# Altium footprint library PCB_ConnectorHDR.PcbLib: 26 footprints (part 1 of 2)
Each footprint in its own frame and in the unit in brackets; x right, y up, seen from the top. Pads: shape width x height; smd on the part's side, far side on the other; paste and mask are expansions set on the pad; w line width, h text height; cw(c..) or ccw(c..) is an arc to the next point about the centre after c.
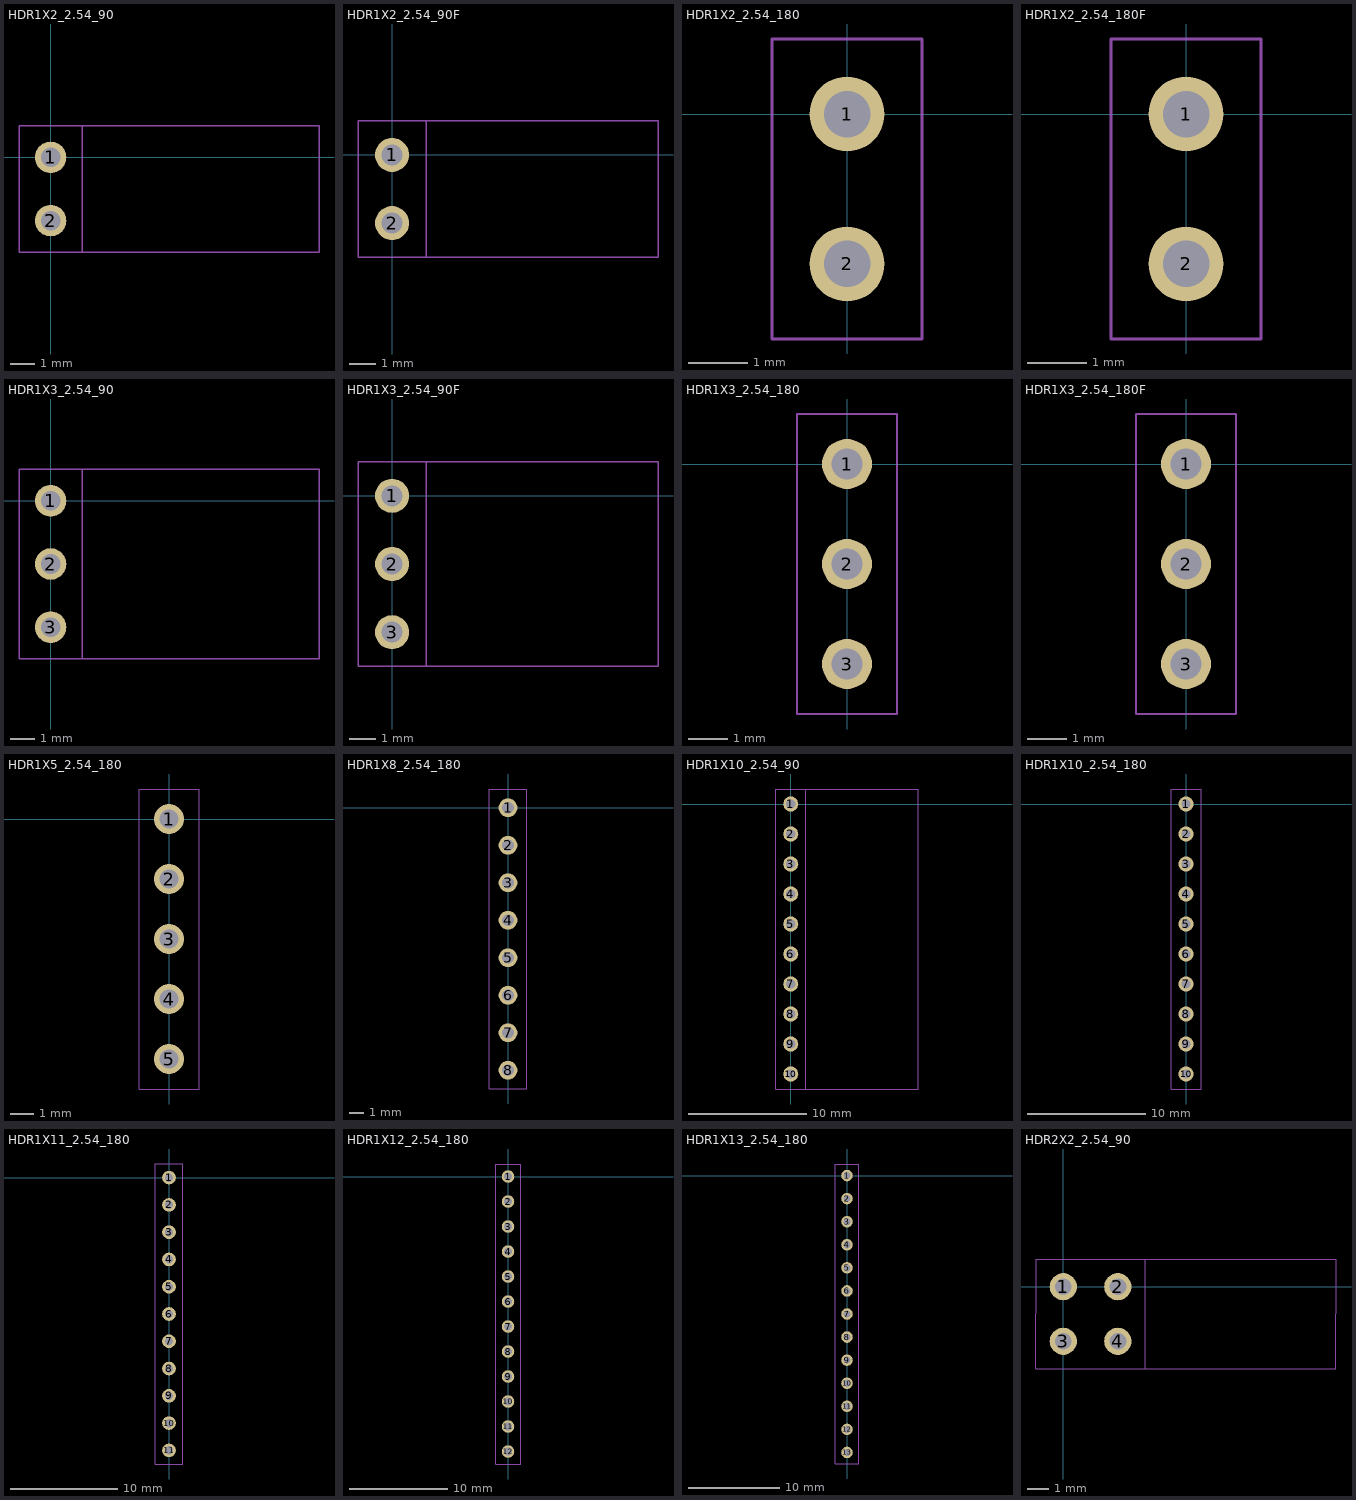
[diagram p0: the footprints below, top view; thin cyan lines are the x and y axes]

## HDR1X2_2.54_90 [mil]
height 169.29
pads (2):
  round 50 hole 31: 1(0,0) 2(0,-100)
Mechanical 15:
  lines w1: -10,0 10,0 ; 0,-10 0,10
  lines w2: 50,-150 50,50 ; -50,-150 -50,50 425,50 425,-150 -50,-150
3D body: height 99.21, standoff -93.7, extent -15,-146.06 423.58,46.06

## HDR1X2_2.54_90F [mil]
height 169.29
pads (2):
  round 50 hole 31: 1(0,0) 2(0,-100)
Mechanical 15:
  lines w1: -10,0 10,0 ; 0,-10 0,10
  lines w2: 50,-150 50,50 ; -50,-150 -50,50 390,50 390,-150 -50,-150
3D body: height 99.21, standoff -125.2, extent -10,-154.92 386.06,54.92

## HDR1X2_2.54_180 [mil]
height 169.29
pads (2):
  round 50 hole 31: 1(0,0) 2(0,-100)
Mechanical 15:
  lines w1: -10,0 10,0 ; 0,-10 0,10
  lines w2: -50,-150 50,-150 50,50 -50,50 -50,-150
3D body: height 322.83, standoff -118.11, extent -49.18,-150 49.18,50

## HDR1X2_2.54_180F [mil]
height 169.29
pads (2):
  round 50 hole 31: 1(0,0) 2(0,-100)
Mechanical 15:
  lines w1: -10,0 10,0 ; 0,-10 0,10
  lines w2: -50,-150 -50,50 50,50 50,-150 -50,-150
3D body: height 334.65, standoff -125.98, extent -49.21,-154.92 49.22,54.92

## HDR1X3_2.54_90 [mil]
height 169.29
pads (3):
  round 50 hole 31: 1(0,0) 2(0,-100) 3(0,-200)
Mechanical 15:
  lines w1: -10,0 10,0 ; 0,-10 0,10
  lines w2: 50,-250 50,50 ; -50,-250 -50,50 425,50 425,-250 -50,-250
3D body: height 99.21, standoff -93.7, extent -15,-246.06 423.58,46.06

## HDR1X3_2.54_90F [mil]
height 169.29
pads (3):
  round 50 hole 31: 1(0,0) 2(0,-100) 3(0,-200)
Mechanical 15:
  lines w1: -10,0 10,0 ; 0,-10 0,10
  lines w2: 50,-250 50,50 ; -50,-250 390,-250 390,50 -50,50 -50,-250
3D body: height 99.21, standoff -125.2, extent -10,-254.92 386.06,54.92

## HDR1X3_2.54_180 [mil]
height 169.29
pads (3):
  round 50 hole 31: 1(0,0) 2(0,-100) 3(0,-200)
Mechanical 15:
  lines w1: -10,0 10,0 ; 0,-10 0,10
  lines w2: -50,-250 -50,50 50,50 50,-250 -50,-250
3D body: height 322.83, standoff -118.11, extent -49.18,-250 49.18,50

## HDR1X3_2.54_180F [mil]
height 169.29
pads (3):
  round 50 hole 31: 1(0,0) 2(0,-100) 3(0,-200)
Mechanical 15:
  lines w1: -10,0 10,0 ; 0,-10 0,10
  lines w2: -50,-250 -50,50 50,50 50,-250 -50,-250
3D body: height 334.65, standoff -125.98, extent -49.21,-254.91 49.22,54.92

## HDR1X5_2.54_180 [mil]
height 169.29
pads (5):
  round 50 hole 31: 1(0,0) 2(0,-100) 3(0,-200) 4(0,-300) 5(0,-400)
Mechanical 15:
  lines w1: -10,0 10,0 ; 0,-10 0,10
  lines w2: -50,-450 50,-450 50,50 -50,50 -50,-450
3D body: height 322.83, standoff -118.11, extent -49.18,-450 49.18,50

## HDR1X8_2.54_180 [mil]
height 169.29
pads (8):
  round 50 hole 31: 1(0,0) 2(0,-100) 3(0,-200) 4(0,-300) 5(0,-400) 6(0,-500) 7(0,-600) 8(0,-700)
Mechanical 15:
  lines w1: -10,0 10,0 ; 0,-10 0,10
  lines w2: -50,-750 -50,50 50,50 50,-750 -50,-750
3D body: height 322.83, standoff -118.11, extent -49.18,-750 49.18,49.99

## HDR1X10_2.54_90 [mil]
height 169.29
pads (10):
  round 50 hole 31: 1(0,0) 2(0,-100) 3(0,-200) 4(0,-300) 5(0,-400) 6(0,-500) 7(0,-600) 8(0,-700) 9(0,-800) 10(0,-900)
Mechanical 15:
  lines w1: -10,0 10,0 ; 0,-10 0,10
  lines w2: 50,-950 50,50 ; -50,-950 425,-950 425,50 -50,50 -50,-950
3D body: height 99.21, standoff -93.7, extent -15,-946.06 423.58,46.06

## HDR1X10_2.54_180 [mil]
height 169.29
pads (10):
  round 50 hole 31: 1(0,0) 2(0,-100) 3(0,-200) 4(0,-300) 5(0,-400) 6(0,-500) 7(0,-600) 8(0,-700) 9(0,-800) 10(0,-900)
Mechanical 15:
  lines w1: -10,0 10,0 ; 0,-10 0,10
  lines w2: -50,-950 -50,50 50,50 50,-950 -50,-950
3D body: height 322.83, standoff -118.11, extent -49.18,-950 49.18,50

## HDR1X11_2.54_180 [mil]
height 169.29
pads (11):
  round 50 hole 31: 1(0,0) 2(0,-100) 3(0,-200) 4(0,-300) 5(0,-400) 6(0,-500) 7(0,-600) 8(0,-700) 9(0,-800) 10(0,-900) 11(0,-1000)
Mechanical 15:
  lines w1: -10,0 10,0 ; 0,-10 0,10
  lines w2: -50,-1050 50,-1050 50,50 -50,50 -50,-1050
3D body: height 322.83, standoff -118.11, extent -49.18,-1050 49.18,50

## HDR1X12_2.54_180 [mil]
height 169.29
pads (12):
  round 50 hole 31: 1(0,0) 2(0,-100) 3(0,-200) 4(0,-300) 5(0,-400) 6(0,-500) 7(0,-600) 8(0,-700) 9(0,-800) 10(0,-900) 11(0,-1000) 12(0,-1100)
Mechanical 15:
  lines w1: -10,0 10,0 ; 0,-10 0,10
  lines w2: -50,-1150 50,-1150 50,50 -50,50 -50,-1150
3D body: height 322.83, standoff -118.11, extent -49.18,-1150 49.18,50

## HDR1X13_2.54_180 [mil]
height 169.29
pads (13):
  round 50 hole 31: 1(0,0) 2(0,-100) 3(0,-200) 4(0,-300) 5(0,-400) 6(0,-500) 7(0,-600) 8(0,-700) 9(0,-800) 10(0,-900) 11(0,-1000) 12(0,-1100) 13(0,-1200)
Mechanical 15:
  lines w1: -10,0 10,0 ; 0,-10 0,10
  lines w2: -50,-1250 -50,50 50,50 50,-1250 -50,-1250
3D body: height 322.83, standoff -118.11, extent -49.18,-1250 49.18,50

## HDR2X2_2.54_90 [mil]
height 169.29
pads (4):
  round 50 hole 31: 1(0,0) 2(100,0) 3(0,-100) 4(100,-100)
Mechanical 15:
  lines w1: -10,0 10,0 ; 0,-10 0,10
  lines w2: 150,-150 150,50 ; -50,-150 -50,50 500,50 500,-150 -50,-150
3D body: height 198.43, standoff -116.54, extent -10,-150 497.09,50